# Altium footprint library 5x5mm_FILM_CAP.PcbLib: 1 footprints
Each footprint in its own frame and in the unit in brackets; x right, y up, seen from the top. Pads: shape width x height; smd on the part's side, far side on the other; paste and mask are expansions set on the pad; w line width, h text height; cw(c..) or ccw(c..) is an arc to the next point about the centre after c.
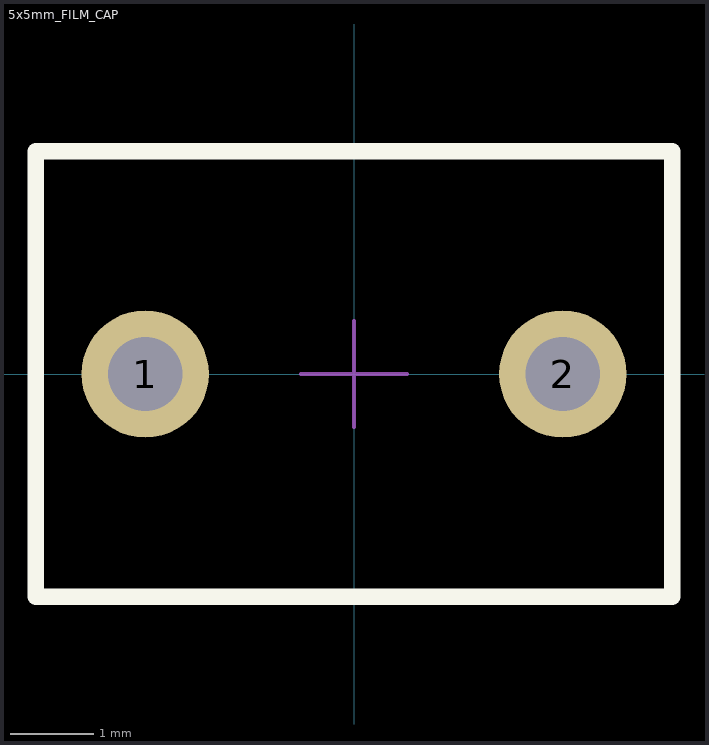
[diagram p0: the footprint, top view; thin cyan lines are the x and y axes]

## 5x5mm_FILM_CAP [mil]
pads (2):
  round 60 hole 35: 1(-98.43,0) 2(98.43,0)
Top Overlay:
  lines w7.87: -150,-105 150,-105 150,105 -150,105 -150,-105
Mechanical 15:
  lines w1.97: -25,0 25,0 ; 0,-25 0,25 ; -150,-105 -150,105 150,105 150,-105 -150,-105
3D body: height 393.7, standoff 0, extent -145,-95 145,95